# EAGLE library part ATTINY24/44A (library Evan)
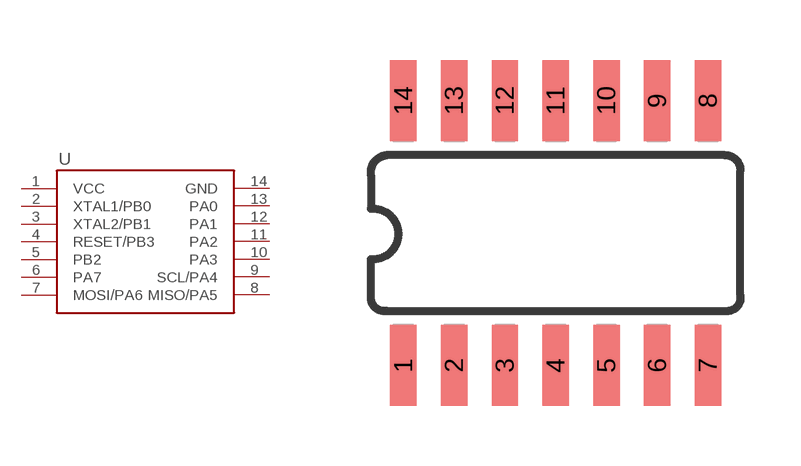
[diagram p0: symbol with the pads of SOIC-14; footprint SOIC-14]

Designator prefix -

## ATTINY24/44ASMD  [SOIC-14]
1  VCC  pwr
2  XTAL1/PB0
3  XTAL2/PB1
4  RESET/PB3
5  PB2
6  PA7
7  MOSI/PA6
8  MISO/PA5
9  SCL/PA4
10  PA3
11  PA2
12  PA1
13  PA0
14  GND  pwr

## Footprint SOIC-14 (pad centres in mm)
smd 0.66 x 2.032: 1 -4.445,-3.315; 2 -3.175,-3.315; 3 -1.905,-3.315; 4 -0.635,-3.315; 5 0.635,-3.315; 6 1.905,-3.315; 7 3.175,-3.315; 8 3.175,3.315; 9 1.905,3.315; 10 0.635,3.315; 11 -0.635,3.315; 12 -1.905,3.315; 13 -3.175,3.315; 14 -4.445,3.315